# EAGLE library part TI_74LVC245_LEVEL_SHIFTER (library tjw)
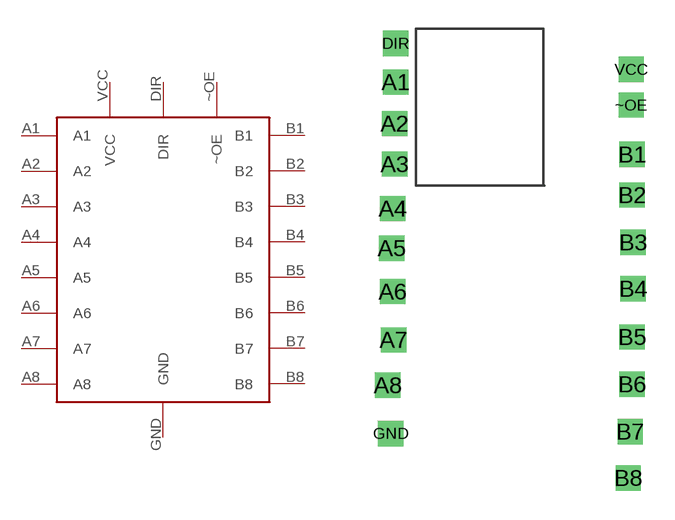
[diagram p2: symbol with the pads of TI_74LVC245_LEVEL_SHIFTER; footprint TI_74LVC245_LEVEL_SHIFTER]

Designator prefix -

## TI_74LVC245_LEVEL_SHIFTER  [TI_74LVC245_LEVEL_SHIFTER]
A1  A1
A2  A2
A3  A3
A4  A4
A5  A5
A6  A6
A7  A7
A8  A8
B1  B1
B2  B2
B3  B3
B4  B4
B5  B5
B6  B6
B7  B7
B8  B8
DIR  DIR
GND  GND
VCC  VCC
~OE  ~OE

## Footprint TI_74LVC245_LEVEL_SHIFTER (pad centres in mm)
drill 0.8 square: A1 -4.6,1.3; A2 -4.65,-0.85; A3 -4.65,-2.95; A4 -4.75,-5.25; A5 -4.8,-7.3; A6 -4.75,-9.55; A7 -4.7,-12.05; A8 -5,-14.4; B1 7.65,-2.45; B2 7.65,-4.55; B3 7.7,-7; B4 7.7,-9.4; B5 7.65,-11.9; B6 7.65,-14.35; B7 7.55,-16.8; B8 7.45,-19.2; DIR -4.6,3.3; GND -4.85,-16.9; VCC 7.6,1.95; ~OE 7.6,0.1